# EAGLE library part LPC812M101FDH16 (library carrilib)
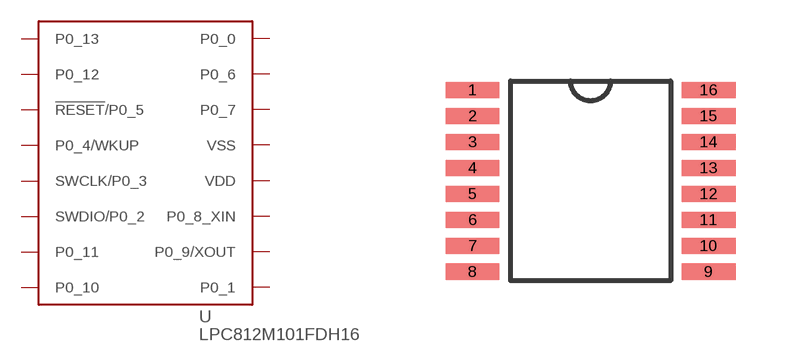
[diagram p31: symbol with the pads of TSSOP16; footprint TSSOP16]

Designator prefix -

## LPC812M101FDH16  [TSSOP16]
1  P0_13
2  P0_12
3  !RESET!/P0_5
4  P0_4/WKUP
5  SWCLK/P0_3
6  SWDIO/P0_2
7  P0_11
8  P0_10
9  P0_1
10  P0_9/XOUT
11  P0_8_XIN
12  VDD
13  VSS
14  P0_7
15  P0_6
16  P0_0

## Footprint TSSOP16 (pad centres in mm)
smd 1.35 x 0.4: 1 -2.95,2.275; 2 -2.95,1.625; 3 -2.95,0.975; 4 -2.95,0.325; 5 -2.95,-0.325; 6 -2.95,-0.975; 7 -2.95,-1.625; 8 -2.95,-2.275; 9 2.95,-2.275; 10 2.95,-1.625; 11 2.95,-0.975; 12 2.95,-0.325; 13 2.95,0.325; 14 2.95,0.975; 15 2.95,1.625; 16 2.95,2.275